# EAGLE library part IC_DIL18 (library dp_devices)
Universal 18pins IC
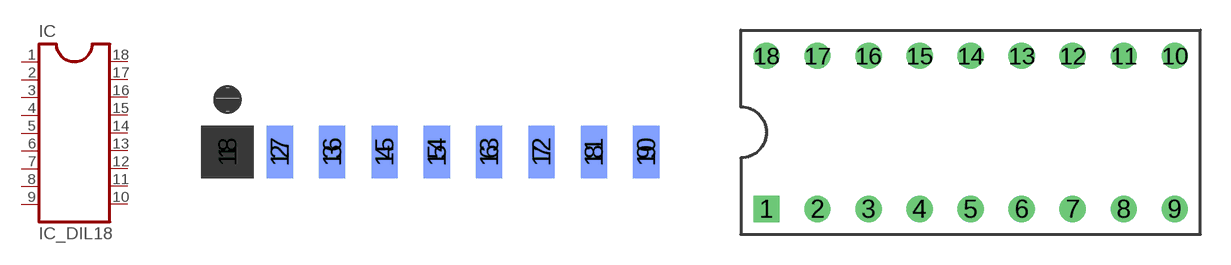
[diagram p35: symbol with the pads of EGDE2X9; footprints EGDE2X9, DIP18]

Designator prefix IC

## IC_DIL18-EDGE  [EGDE2X9]
1  1
2  2
3  3
4  4
5  5
6  6
7  7
8  8
9  9
10  10
11  11
12  12
13  13
14  14
15  15
16  16
17  17
18  18

## IC_DIL18-PTH  [DIP18]
Pads as for EGDE2X9

## Footprint EGDE2X9 (pad centres in mm)
smd 1.27 x 2.54: 1 -10.16,0; 2 -7.62,0; 3 -5.08,0; 4 -2.54,0; 5 0,0; 6 2.54,0; 7 5.08,0; 8 7.62,0; 9 10.16,0
smd 1.27 x 2.54 bottom: 10 10.16,0; 11 7.62,0; 12 5.08,0; 13 2.54,0; 14 0,0; 15 -2.54,0; 16 -5.08,0; 17 -7.62,0; 18 -10.16,0

## Footprint DIP18 (pad centres in mm)
drill 0.8 square: 1 -10.16,-3.81
drill 0.8 round: 2 -7.62,-3.81; 3 -5.08,-3.81; 4 -2.54,-3.81; 5 0,-3.81; 6 2.54,-3.81; 7 5.08,-3.81; 8 7.62,-3.81; 9 10.16,-3.81; 10 10.16,3.81; 11 7.62,3.81; 12 5.08,3.81; 13 2.54,3.81; 14 0,3.81; 15 -2.54,3.81; 16 -5.08,3.81; 17 -7.62,3.81; 18 -10.16,3.81